# EAGLE library part LED2472 (library wheat)
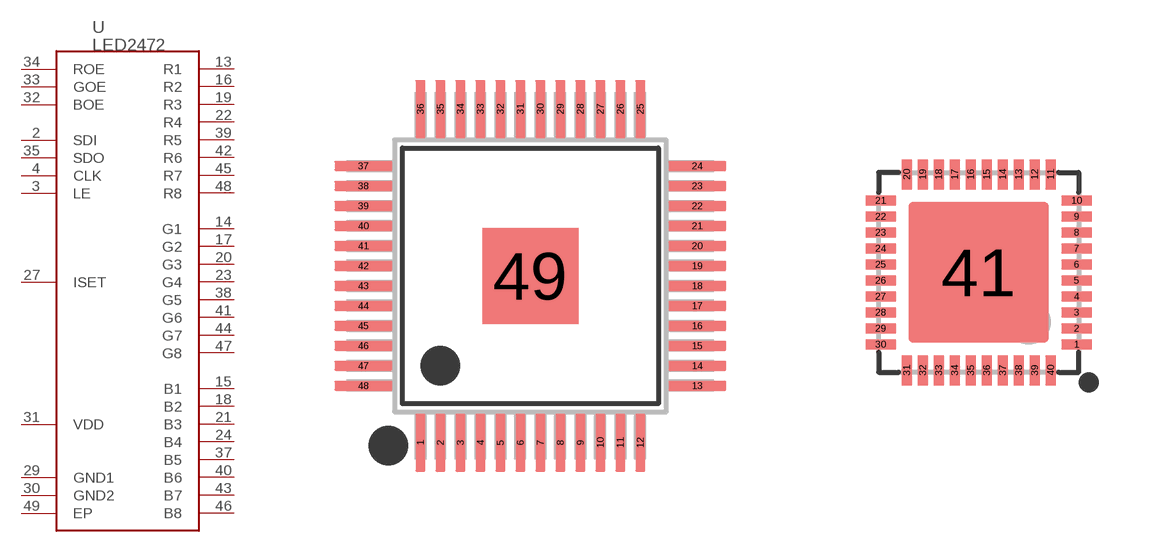
[diagram p186: symbol with the pads of HTQFP48; footprints HTQFP48, QFN40_5X5]

Designator prefix U

## LED2472G  [HTQFP48]
2  SDI  in
3  LE  in
4  CLK  in
13  R1  oc
14  G1  oc
15  B1  oc
16  R2  oc
17  G2  oc
18  B2  oc
19  R3  oc
20  G3  oc
21  B3  oc
22  R4  oc
23  G4  oc
24  B4  oc
27  ISET  pas
29  GND1  pas
30  GND2  pas
31  VDD  pas
32  BOE  in
33  GOE  in
34  ROE  in
35  SDO  out
37  B5  oc
38  G5  oc
39  R5  oc
40  B6  oc
41  G6  oc
42  R6  oc
43  B7  oc
44  G7  oc
45  R7  oc
46  B8  oc
47  G8  oc
48  R8  oc
49  EP  pas

## LED2472GQ  [QFN40_5X5]
1  R8  oc
2  SDI  in
3  LE  in
7  CLK  in
10  R1  oc
11  G1  oc
12  B1  oc
13  R2  oc
14  G2  oc
15  B2  oc
16  R3  oc
17  G3  oc
18  B3  oc
19  R4  oc
20  G4  oc
21  B4  oc
22  ISET  pas
23  GND1  pas
24  GND2  pas
25  VDD  pas
26  BOE  in
27  GOE  in
28  ROE  in
29  SDO  out
30  B5  oc
31  G5  oc
32  R5  oc
33  B6  oc
34  G6  oc
35  R6  oc
36  B7  oc
37  G7  oc
38  R7  oc
39  B8  oc
40  G8  oc
41  EP  pas

## Footprint HTQFP48 (pad centres in mm)
smd 0.25 x 1.45: 1 -2.75,-4.175; 2 -2.25,-4.175; 3 -1.75,-4.175; 4 -1.25,-4.175; 5 -0.75,-4.175; 6 -0.25,-4.175; 7 0.25,-4.175; 8 0.75,-4.175; 9 1.25,-4.175; 10 1.75,-4.175; 11 2.25,-4.175; 12 2.75,-4.175; 25 2.75,4.175; 26 2.25,4.175; 27 1.75,4.175; 28 1.25,4.175; 29 0.75,4.175; 30 0.25,4.175; 31 -0.25,4.175; 32 -0.75,4.175; 33 -1.25,4.175; 34 -1.75,4.175; 35 -2.25,4.175; 36 -2.75,4.175
smd 1.45 x 0.25: 13 4.175,-2.75; 14 4.175,-2.25; 15 4.175,-1.75; 16 4.175,-1.25; 17 4.175,-0.75; 18 4.175,-0.25; 19 4.175,0.25; 20 4.175,0.75; 21 4.175,1.25; 22 4.175,1.75; 23 4.175,2.25; 24 4.175,2.75; 37 -4.175,2.75; 38 -4.175,2.25; 39 -4.175,1.75; 40 -4.175,1.25; 41 -4.175,0.75; 42 -4.175,0.25; 43 -4.175,-0.25; 44 -4.175,-0.75; 45 -4.175,-1.25; 46 -4.175,-1.75; 47 -4.175,-2.25; 48 -4.175,-2.75
smd 2.4 x 2.4: 49 0,0

## Footprint QFN40_5X5 (pad centres in mm)
smd 0.75 x 0.25: 1 2.45,-1.8; 2 2.45,-1.4; 3 2.45,-1; 4 2.45,-0.6; 5 2.45,-0.2; 6 2.45,0.2; 7 2.45,0.6; 8 2.45,1; 9 2.45,1.4; 10 2.45,1.8; 21 -2.45,1.8; 22 -2.45,1.4; 23 -2.45,1; 24 -2.45,0.6; 25 -2.45,0.2; 26 -2.45,-0.2; 27 -2.45,-0.6; 28 -2.45,-1; 29 -2.45,-1.4; 30 -2.45,-1.8
smd 0.25 x 0.75: 11 1.8,2.45; 12 1.4,2.45; 13 1,2.45; 14 0.6,2.45; 15 0.2,2.45; 16 -0.2,2.45; 17 -0.6,2.45; 18 -1,2.45; 19 -1.4,2.45; 20 -1.8,2.45; 31 -1.8,-2.45; 32 -1.4,-2.45; 33 -1,-2.45; 34 -0.6,-2.45; 35 -0.2,-2.45; 36 0.2,-2.45; 37 0.6,-2.45; 38 1,-2.45; 39 1.4,-2.45; 40 1.8,-2.45
smd 3.5 x 3.5: 41 0,0